# Altium schematic symbol library LME49721MAXNOPB.SchLib: 1 symbol
Pins are listed as number, name and electrical type; pins without a type are passive.

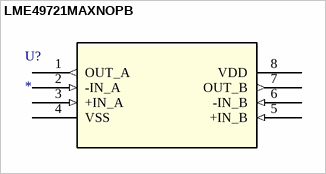
[diagram p0: symbol LME49721MAXNOPB]

## LME49721MAXNOPB
designator U?
No Description Available; Mfr_Name: Texas Instruments; RefDes: RefDes; Type: Type
footprint M08A
pins: 1 OUT_A (out), 2 -IN_A (in), 3 +IN_A (in), 4 VSS (power), 5 +IN_B (in), 6 -IN_B (in), 7 OUT_B (out), 8 VDD (power)